# Altium footprint library pogo.PcbLib: 1 footprints
Each footprint in its own frame and in the unit in brackets; x right, y up, seen from the top. Pads: shape width x height; smd on the part's side, far side on the other; paste and mask are expansions set on the pad; w line width, h text height; cw(c..) or ccw(c..) is an arc to the next point about the centre after c.
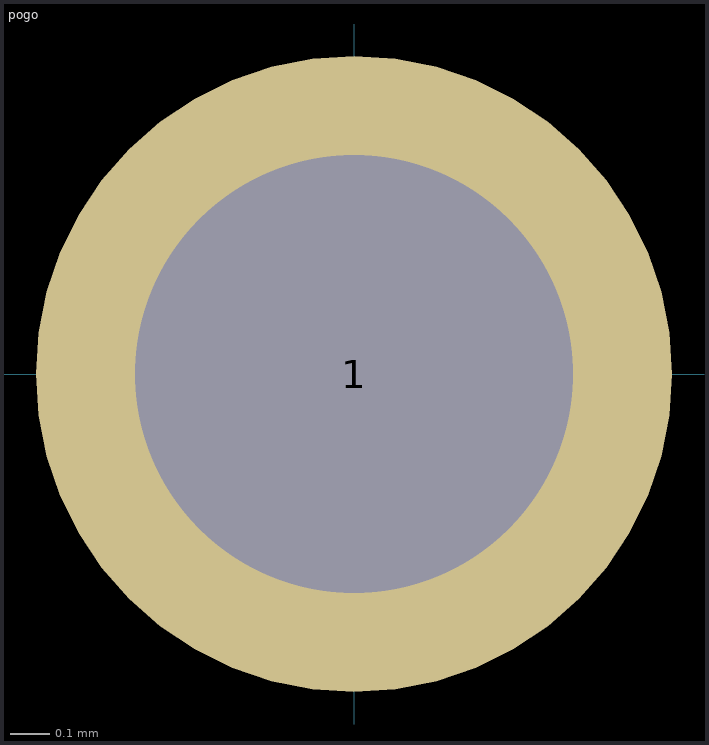
[diagram p0: the footprint, top view; thin cyan lines are the x and y axes]

## pogo [mm]
pads (1):
  round 1.6 hole 1.1: 1(0,0)
3D body: height 20, standoff -12.7, extent -0.504,-0.505 0.504,0.501